# Altium footprint library 封装库.PCBLIB: 282 footprints (part 6 of 18)
Each footprint in its own frame and in the unit in brackets; x right, y up, seen from the top. Pads: shape width x height; smd on the part's side, far side on the other; paste and mask are expansions set on the pad; w line width, h text height; cw(c..) or ccw(c..) is an arc to the next point about the centre after c.
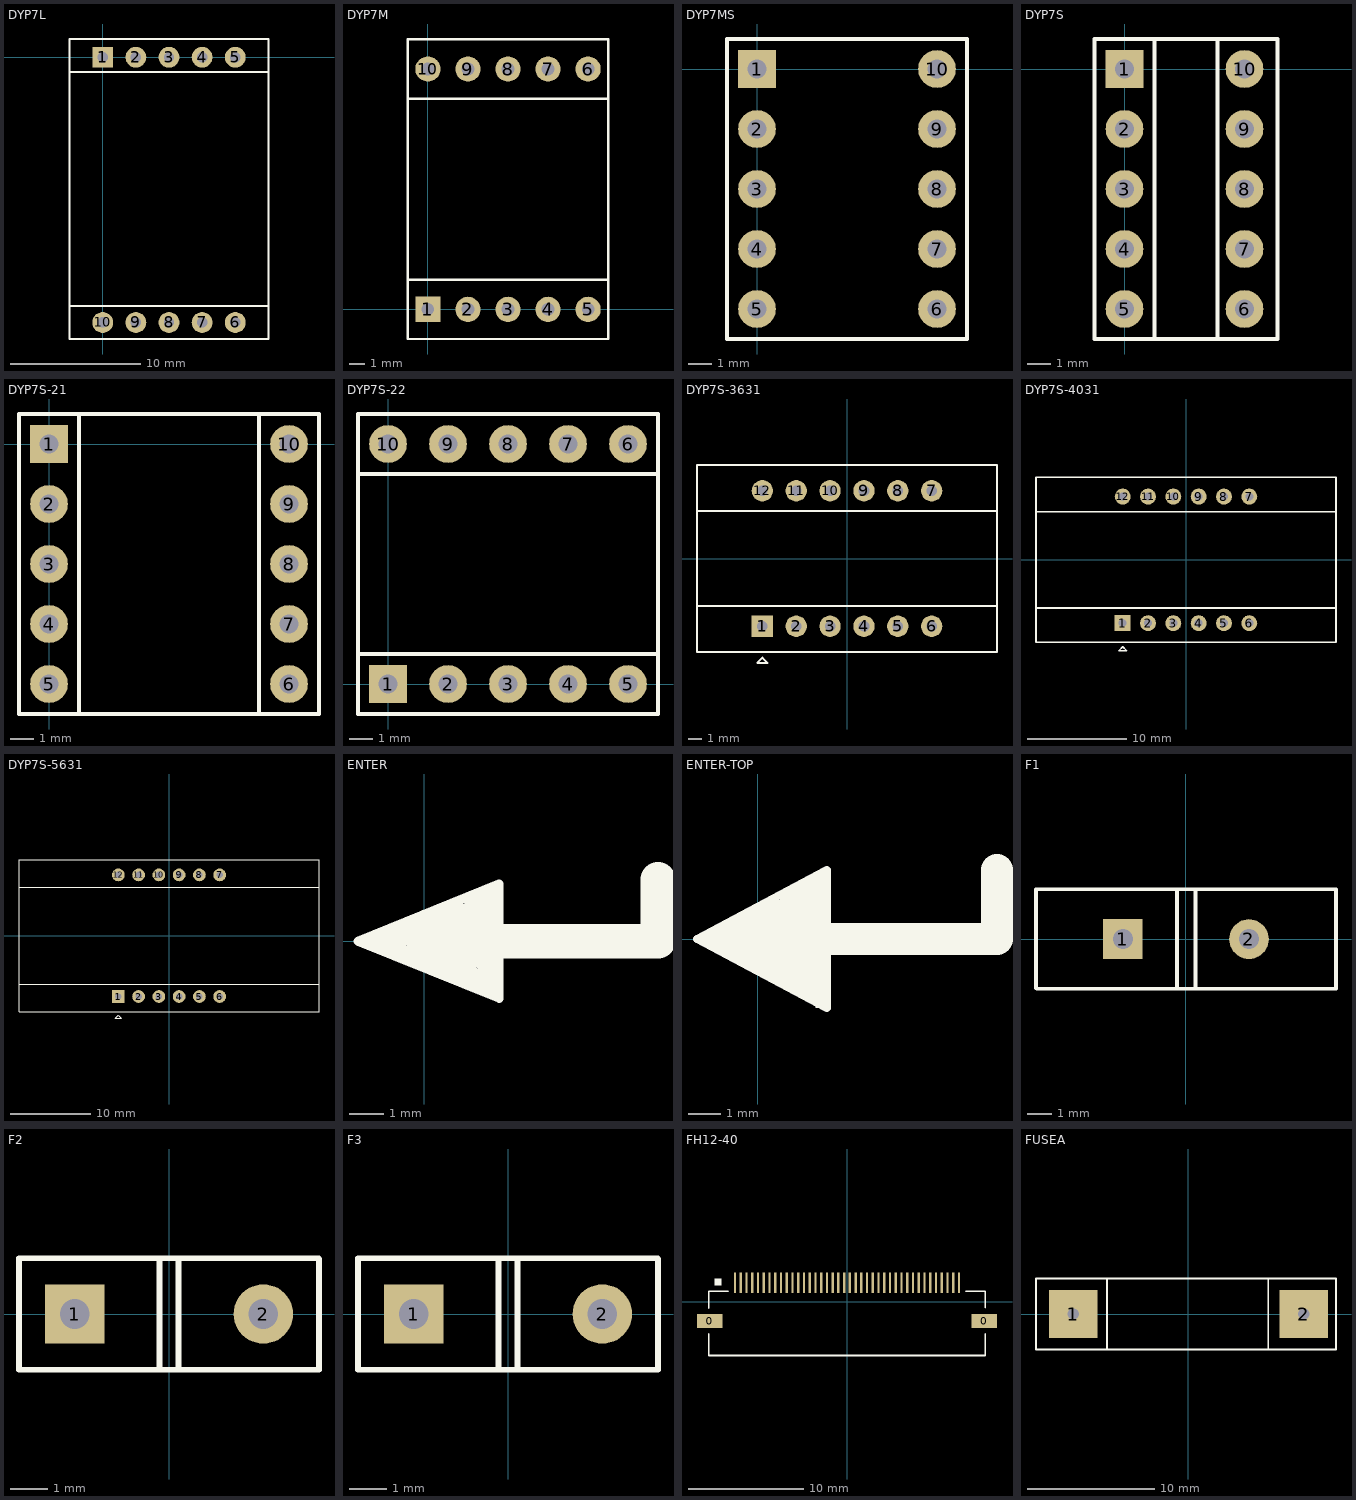
[diagram p5: the footprints below, top view; thin cyan lines are the x and y axes]

## DYP7L [mm] "0.56 inch"
pads (10):
  rect 1.6x1.6 hole 0.8: 1(0,0)
  round 1.6 hole 0.8: 2(2.54,0) 3(5.08,0) 4(7.62,0) 5(10.16,0) 6(10.16,-20.32) 7(7.62,-20.32) 8(5.08,-20.32) 9(2.54,-20.32) 10(0,-20.32)
TopOverlay:
  lines w0.152: -2.54,-19.05 -0.787,-19.05 ; -2.54,-1.143 -1.27,-1.143 11.43,-1.143 12.7,-1.143 ; -2.54,0.025 -2.54,1.397 -1.27,1.397 0,1.397 11.43,1.397 12.7,1.397 12.7,-0.051 ; -2.54,0.076 -2.54,-21.59 -1.27,-21.59 11.43,-21.59 12.7,-21.59 12.7,0.203 ; -1.143,-19.05 11.43,-19.05 12.7,-19.05

## DYP7M [mm] "LG5011AH,ED5011AK,0.5 inch"
pads (10):
  rect 1.6x1.6 hole 0.8: 1(0,0)
  round 1.6 hole 0.8: 2(2.54,0) 3(5.08,0) 4(7.62,0) 5(10.16,0) 6(10.16,15.24) 7(7.62,15.24) 8(5.08,15.24) 9(2.54,15.24) 10(0,15.24)
TopOverlay:
  lines w0.152: -1.27,0 -1.27,-1.88 ; -1.27,1.88 11.43,1.88 ; -1.27,13.36 11.43,13.36 ; 11.43,14.097 11.43,17.145 ; -1.27,-1.88 -1.27,17.12 11.43,17.12 11.43,-1.88 -1.27,-1.88

## DYP7MS [mm] "0.40 inch"
pads (10):
  rect 1.6x1.6 hole 0.8: 1(0,0)
  round 1.6 hole 0.8: 2(0,-2.54) 3(0,-5.08) 4(0,-7.62) 5(0,-10.16) 6(7.62,-10.16) 7(7.62,-7.62) 8(7.62,-5.08) 9(7.62,-2.54) 10(7.62,0)
TopOverlay:
  lines w0.152: -1.27,-2.794 -1.27,1.245 ; -1.27,-1.829 -1.27,-11.43 0.254,-11.43 ; -1.27,0.127 -1.27,1.27 7.722,1.27 ; -0.508,-11.43 7.264,-11.43 8.89,-11.43 ; 4.877,1.27 8.636,1.27 ; 7.62,1.27 8.89,1.27 ; 8.89,-10.262 8.89,-11.43 ; 8.89,-6.045 8.89,0.413 8.89,1.27 ; 8.89,-11.43 8.89,1.27

## DYP7S [mm] "0.36 inch"
pads (10):
  rect 1.6x1.6 hole 0.8: 1(0,0)
  round 1.6 hole 0.8: 2(0,-2.54) 3(0,-5.08) 4(0,-7.62) 5(0,-10.16) 6(5.08,-10.16) 7(5.08,-7.62) 8(5.08,-5.08) 9(5.08,-2.54) 10(5.08,0)
TopOverlay:
  lines w0.152: 1.27,1.143 1.27,-11.43 ; 3.429,-11.43 6.477,-11.43 6.477,0 6.477,1.27 1.143,1.27 -1.27,1.27 -1.27,-11.43 1.27,-11.43 ; 3.937,-11.43 3.937,1.27 ; 4.572,-11.43 1.27,-11.43

## DYP7S-21 [mm] "0.36 inch,2 bit"
pads (10):
  rect 1.6x1.6 hole 0.8: 1(0,0)
  round 1.6 hole 0.8: 2(0,-2.54) 3(0,-5.08) 4(0,-7.62) 5(0,-10.16) 6(10.16,-10.16) 7(10.16,-7.62) 8(10.16,-5.08) 9(10.16,-2.54) 10(10.16,0)
TopOverlay:
  lines w0.152: 1.27,1.143 1.27,-11.43 ; 3.429,-11.43 6.477,-11.43 ; 3.937,-11.43 11.43,-11.43 11.43,1.27 3.937,1.27 ; 4.572,-11.43 1.27,-11.43 ; 6.477,1.27 1.143,1.27 -1.27,1.27 -1.27,-11.43 1.27,-11.43 ; 8.89,-11.43 8.89,1.143 ; 8.89,-10.16 8.89,1.27

## DYP7S-22 [mm]
pads (10):
  rect 1.6x1.6 hole 0.8: 1(0,0)
  round 1.6 hole 0.8: 2(2.54,0) 3(5.08,0) 4(7.62,0) 5(10.16,0) 6(10.16,10.16) 7(7.62,10.16) 8(5.08,10.16) 9(2.54,10.16) 10(0,10.16)
TopOverlay:
  lines w0.152: -1.27,3.937 -1.27,11.43 11.43,11.43 11.43,3.937 ; -1.27,6.477 -1.27,1.143 -1.27,-1.27 11.43,-1.27 11.43,1.27 ; -1.27,8.89 10.16,8.89 ; -1.143,1.27 11.43,1.27 ; -1.143,8.89 11.43,8.89 ; 11.43,3.429 11.43,6.477 ; 11.43,4.572 11.43,1.27

## DYP7S-3631 [mm] "0.36 inch,3 bit"
pads (12):
  rect 1.6x1.6 hole 0.8: 1(-6.35,-5.08)
  round 1.6 hole 0.8: 2(-3.81,-5.08) 3(-1.27,-5.08) 4(1.27,-5.08) 5(3.81,-5.08) 6(6.35,-5.08) 7(6.35,5.08) 8(3.81,5.08) 9(1.27,5.08) 10(-1.27,5.08) 11(-3.81,5.08) 12(-6.35,5.08)
TopOverlay:
  lines w0.152: -11.252,3.556 11.248,3.556 ; -11.25,-3.556 11.25,-3.556 ; -11.25,-7 11.25,-7 11.25,7 -11.25,7 -11.25,-7 ; -6.731,-7.823 -6.35,-7.442 -5.969,-7.823 -6.731,-7.823

## DYP7S-4031 [mm] "0.40 inch,3 bit"
pads (12):
  rect 1.6x1.6 hole 0.8: 1(-6.35,-6.35)
  round 1.6 hole 0.8: 2(-3.81,-6.35) 3(-1.27,-6.35) 4(1.27,-6.35) 5(3.81,-6.35) 6(6.35,-6.35) 7(6.35,6.35) 8(3.81,6.35) 9(1.27,6.35) 10(-1.27,6.35) 11(-3.81,6.35) 12(-6.35,6.35)
TopOverlay:
  lines w0.152: -15.05,-4.826 15.05,-4.826 ; -15.05,4.826 15.05,4.826 ; -15.05,-8.27 15.05,-8.27 15.05,8.27 -15.05,8.27 -15.05,-8.27 ; -6.731,-9.093 -6.35,-8.712 -5.969,-9.093 -6.731,-9.093

## DYP7S-5631 [mm] "0.56inch,3 bit"
pads (12):
  rect 1.6x1.6 hole 0.8: 1(-6.35,-7.62)
  round 1.6 hole 0.8: 2(-3.81,-7.62) 3(-1.27,-7.62) 4(1.27,-7.62) 5(3.81,-7.62) 6(6.35,-7.62) 7(6.35,7.62) 8(3.81,7.62) 9(1.27,7.62) 10(-1.27,7.62) 11(-3.81,7.62) 12(-6.35,7.62)
TopOverlay:
  lines w0.152: -18.8,-6.096 18.8,-6.096 ; -18.8,6.096 18.8,6.096 ; -18.8,-9.54 -18.8,9.54 18.8,9.54 18.8,-9.54 -18.8,-9.54 ; -6.731,-10.363 -5.969,-10.363 -6.35,-9.982 -6.731,-10.363

## ENTER [mm]
TopOverlay:
  lines w0.025: 2.159,-1.651 2.159,0 2.159,1.651
  lines w0.254: -0.019,0.766 2.159,0.762 ; 0.321,-0.419 0.61,-0.254 0.915,-0.661 0.781,-0.118 1.28,-0.81 1.783,-0.341 2.159,-0.762 1.825,-0.717 2.159,-0.432 1.321,-0.229 2.159,-1.041 0.015,0.395 1.422,0.229 0.15,0.573 -0.383,-0.132 2.159,-1.168 -0.392,-0.236 2.159,-1.397 -0.409,-0.439 -0.352,0.242 -0.117,0.602 2.159,0.356 0.159,0.719 -0.631,0.383 0.127,0 -0.96,0.169 -0.168,-0.706 -1.219,0 -0.086,0.739 2.159,0.559 ; 0.574,1.007 2.159,0.914 ; 1.041,0 -1.905,0 ; 2.159,1.016 1.125,1.231 2.159,1.219 1.746,1.483 2.159,1.448 ; -1.905,0 2.159,1.651 2.159,-1.651 -1.905,0
  lines w1: 0.235,0 6.731,0 6.731,1.778

## ENTER-TOP [mm]
TopOverlay:
  rectangle: -1.476,-0.229 -1.016,0.228
  rectangle: -1.259,-0.356 -0.787,0.343
  rectangle: -1.022,-0.457 -0.584,0.469
  rectangle: -0.795,-0.66 -0.178,0.59
  rectangle: -0.538,-0.838 0.102,0.726
  rectangle: -0.312,-0.838 0.102,0.846
  rectangle: -0.107,-0.965 0.432,0.955
  rectangle: 0.139,-1.118 0.864,1.086
  rectangle: 0.399,-1.27 1.168,1.224
  rectangle: 0.678,-1.372 1.524,1.372
  rectangle: 0.926,-1.524 1.676,1.504
  rectangle: 1.138,-1.651 1.88,1.617
  rectangle: 1.365,-1.854 2.159,1.737
  rectangle: 1.606,-1.93 2.159,1.865
  rectangle: 1.805,-2.159 2.159,1.971
  lines w0.025: 2.159,-2.159 2.159,0
  lines w0.254: 1.041,0 -1.905,0 ; -1.905,0 2.159,2.159 2.159,-2.159 -1.905,0
  lines w1: 0.235,0 7.493,0 7.493,2.159

## F1 [mm]
pads (2):
  rect 1.6x1.6 hole 0.8: 1(-2.54,0)
  round 1.6 hole 0.8: 2(2.54,0)
TopOverlay:
  lines w0.152: -6.04,-1.499 -6.039,-1.5 -6.039,1.5 -6.04,1.499 ; -6.039,-1.245 -6.039,-1.975 ; -6.039,-1.041 -6.039,-1.975 ; -6.039,1.067 -6.039,2 -6.032,2.007 0.584,2.007 ; -1.746,-2 2.54,-2 ; -0.508,-2 -6.013,-2 ; -0.356,-2 -0.356,2.007 ; -0.254,2.007 4.039,2.007 6.023,2.007 ; 0.381,-2 0.381,2.007 ; 1.397,-2 4.997,-2 ; 4.216,-2 5.613,-2 ; 5.334,-2 6.045,-2 6.044,-1.999 6.044,-0.737 ; 5.537,2.007 5.539,2.005 6.044,2.005 6.044,1.27 ; 6.041,-1.5 6.044,-1.497 6.044,1.5 ; -6.039,-1.975 -6.013,-2 ; -6.039,-1.975 -6.013,-2

## F2 [mm]
pads (2):
  rect 1.6x1.6 hole 0.8: 1(-2.54,0)
  round 1.6 hole 0.8: 2(2.54,0)
TopOverlay:
  lines w0.152: -4.04,-0.888 -4.04,1.168 ; -4.04,-0.406 -4.04,-1.497 ; -4.04,-0.254 -4.04,1.421 ; -4.04,0.889 -4.04,1.5 -2.946,1.5 ; -4.037,-1.5 -4.04,-1.497 ; -3.354,1.5 -2.515,1.5 ; -2.794,1.5 -0.255,1.5 ; -0.255,-1.497 -0.255,1.5 ; 0.254,-1.497 0.254,1.5 ; 4.037,0.866 4.037,1.5 -0.255,1.5 ; 4.04,-0.254 4.04,1.475 ; 4.04,0.66 4.04,-1.497 -4.04,-1.497

## F3 [mm]
pads (2):
  rect 1.6x1.6 hole 0.8: 1(-2.54,0)
  round 1.6 hole 0.8: 2(2.54,0)
TopOverlay:
  lines w0.152: -4.04,-0.888 -4.04,1.168 ; -4.04,-0.406 -4.04,-1.497 -4.037,-1.5 -3.453,-1.5 -2.54,-1.5 ; -4.04,-0.254 -4.04,1.421 ; -4.04,0.889 -4.04,1.5 -2.946,1.5 ; -3.354,1.5 -2.515,1.5 ; -2.794,-1.5 -1.573,-1.5 ; -2.794,1.5 -0.255,1.5 ; -2.261,-1.5 4.037,-1.5 ; -0.255,-1.5 -0.255,1.5 ; 0.254,-1.5 0.254,1.5 ; 4.037,0.866 4.037,1.5 -0.255,1.5 ; 4.04,-1.497 4.04,0.66 ; 4.04,-0.254 4.04,1.475

## FH12-40 [mm]
pads (42):
  rect 2.2x1.2 smd: 0(-11.963,-1.664) 0(11.963,-1.664)
  rect 0.2x1.8 smd: 1(-9.75,1.664) 2(-9.25,1.664) 3(-8.75,1.664) 4(-8.25,1.664) 5(-7.75,1.664) 6(-7.25,1.664) 7(-6.75,1.664) 8(-6.25,1.664) 9(-5.75,1.664) 10(-5.25,1.664) 11(-4.75,1.664) 12(-4.25,1.664) 13(-3.75,1.664) 14(-3.25,1.664) 15(-2.75,1.664) 16(-2.25,1.664) 17(-1.75,1.664) 18(-1.25,1.664) 19(-0.75,1.664) 20(-0.25,1.664) 21(0.25,1.664) 22(0.75,1.664) 23(1.25,1.664) 24(1.75,1.664) 25(2.25,1.664) 26(2.75,1.664) 27(3.25,1.664) 28(3.75,1.664) 29(4.25,1.664) 30(4.75,1.664) 31(5.25,1.664) 32(5.75,1.664) 33(6.25,1.664) 34(6.75,1.664) 35(7.25,1.664) 36(7.75,1.664) 37(8.25,1.664) 38(8.75,1.664) 39(9.25,1.664) 40(9.75,1.664)
TopOverlay:
  rectangle: -11.547,1.448 -10.947,2.048
  lines w0.152: -12.05,-3.721 -12.05,-4.651 ; -12.05,-3.406 -12.05,-3.914 ; -12.05,-2.802 -12.05,-3.914 ; -12.05,-0.521 -12.05,0.926 -10.353,0.926 ; -11.659,-4.671 -12.029,-4.671 ; 10.353,0.921 12.05,0.921 12.05,-0.506 ; 11.034,-4.671 12.05,-4.671 12.05,-3.111 ; 11.684,-4.671 -12.029,-4.671 ; 12.05,-3.96 12.05,-3.162 ; 12.05,-3.619 12.05,-2.792 ; -12.05,-4.651 -12.029,-4.671 ; -12.05,-4.651 -12.05,-3.914 ; -12.05,-4.651 -12.029,-4.671

## FUSEA [mm]
pads (2):
  rect 3.81x3.81 hole 0.9: 1(-9.08,0) 2(9.08,0)
TopOverlay:
  lines w0.152: -6.413,-2.794 -6.413,2.794 ; 6.286,-2.794 6.286,2.794 ; -12.002,-2.794 -12.002,2.794 11.62,2.794 11.62,-2.794 -12.002,-2.794